# EAGLE library part LCD-2X16 (library chuong)
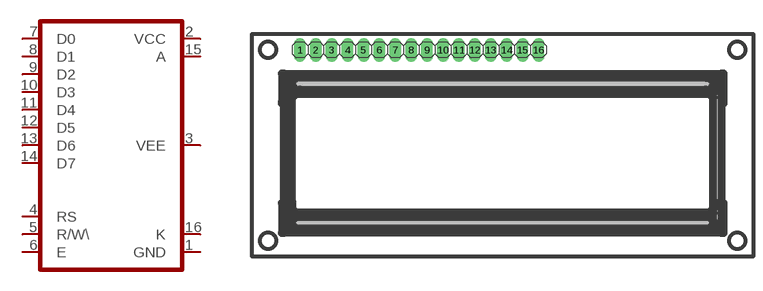
[diagram p32: symbol with the pads of LCD-2X16; footprint LCD-2X16]

Designator prefix LCD

## LCD-2X16  [LCD-2X16]
1  GND
2  VCC
3  VEE
4  RS
5  R/W\
6  E
7  D0
8  D1
9  D2
10  D3
11  D4
12  D5
13  D6
14  D7
15  A
16  K

## Footprint LCD-2X16 (pad centres in mm)
drill 0.813 pad 1.93 long: 1 -31.75,16.51; 2 -29.21,16.51; 3 -26.67,16.51; 4 -24.13,16.51; 5 -21.59,16.51; 6 -19.05,16.51; 7 -16.51,16.51; 8 -13.97,16.51; 9 -11.43,16.51; 10 -8.89,16.51; 11 -6.35,16.51; 12 -3.81,16.51; 13 -1.27,16.51; 14 1.27,16.51; 15 3.81,16.51; 16 6.35,16.51